# Altium schematic symbol library ZXMP10A13F.Schlib: 1 symbol
Pins are listed as number, name and electrical type; pins without a type are passive.

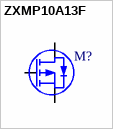
[diagram p0: symbol ZXMP10A13F]

## ZXMP10A13F
designator M?
100V 700mA P-Channel
pins: 1 G, 2 S, 3 D